# Altium footprint library BM06B-GHS-TBTLFSNN.PcbLib: 1 footprints
Each footprint in its own frame and in the unit in brackets; x right, y up, seen from the top. Pads: shape width x height; smd on the part's side, far side on the other; paste and mask are expansions set on the pad; w line width, h text height; cw(c..) or ccw(c..) is an arc to the next point about the centre after c.
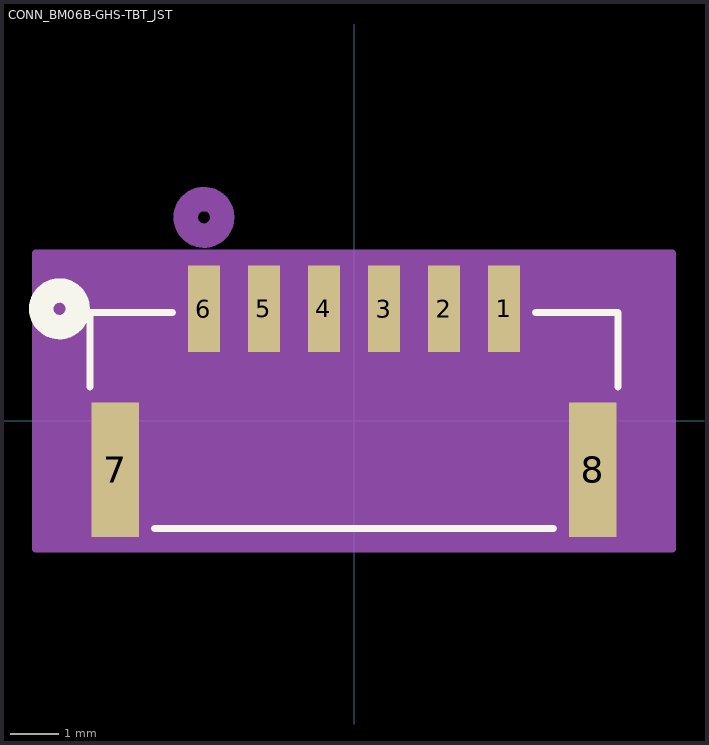
[diagram p0: the footprint, top view; thin cyan lines are the x and y axes]

## CONN_BM06B-GHS-TBT_JST [mil]
pads (8):
  rect 26x71 smd paste+0 mask+0: 1(123.03,91.58) 2(73.82,91.58) 3(24.61,91.58) 4(-24.61,91.58) 5(-73.82,91.58) 6(-123.03,91.58)
  rect 39x110 smd paste-55 mask-55: 7(-195.87,-40.31) 8(195.87,-40.31)
Top Overlay:
  circle w20: c-241.5,91.58 r15
  lines w6: -216.5,27.74 -216.5,88.5 -149.13,88.5 ; -163.27,-88.5 163.27,-88.5 ; 149.13,88.5 216.5,88.5 216.5,27.74
  text ".Designator" at -137.5,66.58 h50
Bottom Overlay:
  circle w20: c-241.5,91.58 r15
Mechanical 13:
  circle w20: c-123.03,166.58 r15
  lines w1: -211.5,-83.5 211.5,-83.5 211.5,83.5 -211.5,83.5 -211.5,-83.5
  text ".Designator" at -137.5,66.58 h50
Mechanical 15:
  region: 260.87,137.08 -260.87,137.08 -260.87,-105.31 260.87,-105.31
  lines w6: -260.87,-105.31 -260.87,137.08 260.87,137.08 260.87,-105.31 -260.87,-105.31